# Altium footprint library CON TFM-107-01-x-D.PcbLib: 1 footprints
Each footprint in its own frame and in the unit in brackets; x right, y up, seen from the top. Pads: shape width x height; smd on the part's side, far side on the other; paste and mask are expansions set on the pad; w line width, h text height; cw(c..) or ccw(c..) is an arc to the next point about the centre after c.
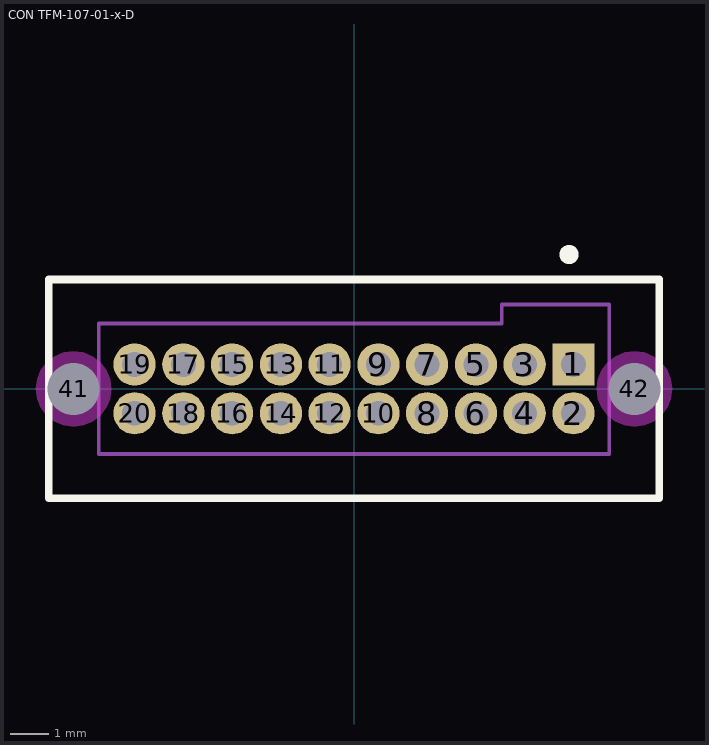
[diagram p0: the footprint, top view; thin cyan lines are the x and y axes]

## CON TFM-107-01-x-D [mm] "0.050\" pitch, 20 pin, terminal strip; PTH"
height 5.59
pads (22):
  rect 1.1x1.1 hole 0.65 unplated mask+0: 1(5.715,0.635)
  round 1.1 hole 0.65 unplated mask+0: 2(5.715,-0.635) 3(4.445,0.635) 4(4.445,-0.635) 5(3.175,0.635) 6(3.175,-0.635) 7(1.905,0.635) 8(1.905,-0.635) 9(0.635,0.635) 10(0.635,-0.635) 11(-0.635,0.635) 12(-0.635,-0.635) 13(-1.905,0.635) 14(-1.905,-0.635) 15(-3.175,0.635) 16(-3.175,-0.635) 17(-4.445,0.635) 18(-4.445,-0.635) 19(-5.715,0.635) 20(-5.715,-0.635)
  round 1 hole 1.35 unplated mask+0: 41(-7.305,0) 42(7.305,0)
Top Overlay:
  circle w0.25: c5.6,3.5 r0.125
  lines w0.2: -7.95,-2.85 7.95,-2.85 7.95,2.85 -7.95,2.85 -7.95,-2.85
Keep-Out Layer:
  pour cut-out: 8.288,0 8.255,0.255 8.157,0.492 8,0.695 7.797,0.852 7.56,0.95 7.305,0.983 7.05,0.95 6.813,0.852 6.61,0.695 6.453,0.492 6.355,0.255 6.322,0 6.355,-0.255 6.453,-0.492 6.61,-0.695 6.813,-0.852 7.05,-0.95 7.305,-0.983 7.56,-0.95 7.797,-0.852 8,-0.695 8.157,-0.492 8.255,-0.255
  pour cut-out: -6.322,0 -6.355,0.255 -6.453,0.492 -6.61,0.695 -6.813,0.852 -7.05,0.95 -7.305,0.983 -7.56,0.95 -7.797,0.852 -8,0.695 -8.157,0.492 -8.255,0.255 -8.288,0 -8.255,-0.255 -8.157,-0.492 -8,-0.695 -7.797,-0.852 -7.56,-0.95 -7.305,-0.983 -7.05,-0.95 -6.813,-0.852 -6.61,-0.695 -6.453,-0.492 -6.355,-0.255
Mechanical 12:
  lines w0.001: 3.85,1.702 3.85,2.2 6.65,2.2 6.65,-1.7 ; 7.95,-2.85 7.95,2.85
Mechanical 13:
  lines w0.1: -7.95,-2.85 7.95,-2.85 7.95,2.85 -7.95,2.85 -7.95,-2.85 ; -6.65,-1.7 6.65,-1.7 6.65,2.2 3.85,2.2 3.85,1.702 -6.65,1.702 -6.65,-1.7